# Altium schematic symbol library HV-5RGB60.SchLib: 1 symbol
Pins are listed as number, name and electrical type; pins without a type are passive.

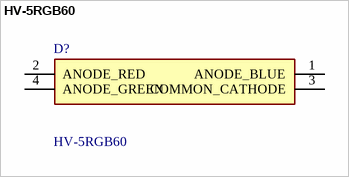
[diagram p0: symbol HV-5RGB60]

## HV-5RGB60
designator D?
Standard LEDs - Through Hole RGB LED; Manufacturer_Name: Inolux; Geometry.Height: 8.9mm; Mouser Part Number: 743-HV-5RGB60; Mouser Price/Stock: https://www.mouser.co.uk/ProductDetail/Inolux/HV-5RGB60?qs=qSfuJ%252Bfl%2Fd7yi2o6d75%2FlQ%3D%3D; Manufacturer_Part_Number: HV-5RGB60; Datasheet Link: http://www.inolux-corp.com/datasheet/Inolux%20Lamp/TH%20Lamp/HV-5RGBXX%205mm%20Full-Color%20Series.pdf
footprint HV5RGB25
pins: 1 ANODE_BLUE, 2 ANODE_RED, 3 COMMON_CATHODE, 4 ANODE_GREEN